# Altium footprint library WE-IBTI.PcbLib: 39 footprints (part 1 of 3)
Each footprint in its own frame and in the unit in brackets; x right, y up, seen from the top. Pads: shape width x height; smd on the part's side, far side on the other; paste and mask are expansions set on the pad; w line width, h text height; cw(c..) or ccw(c..) is an arc to the next point about the centre after c.
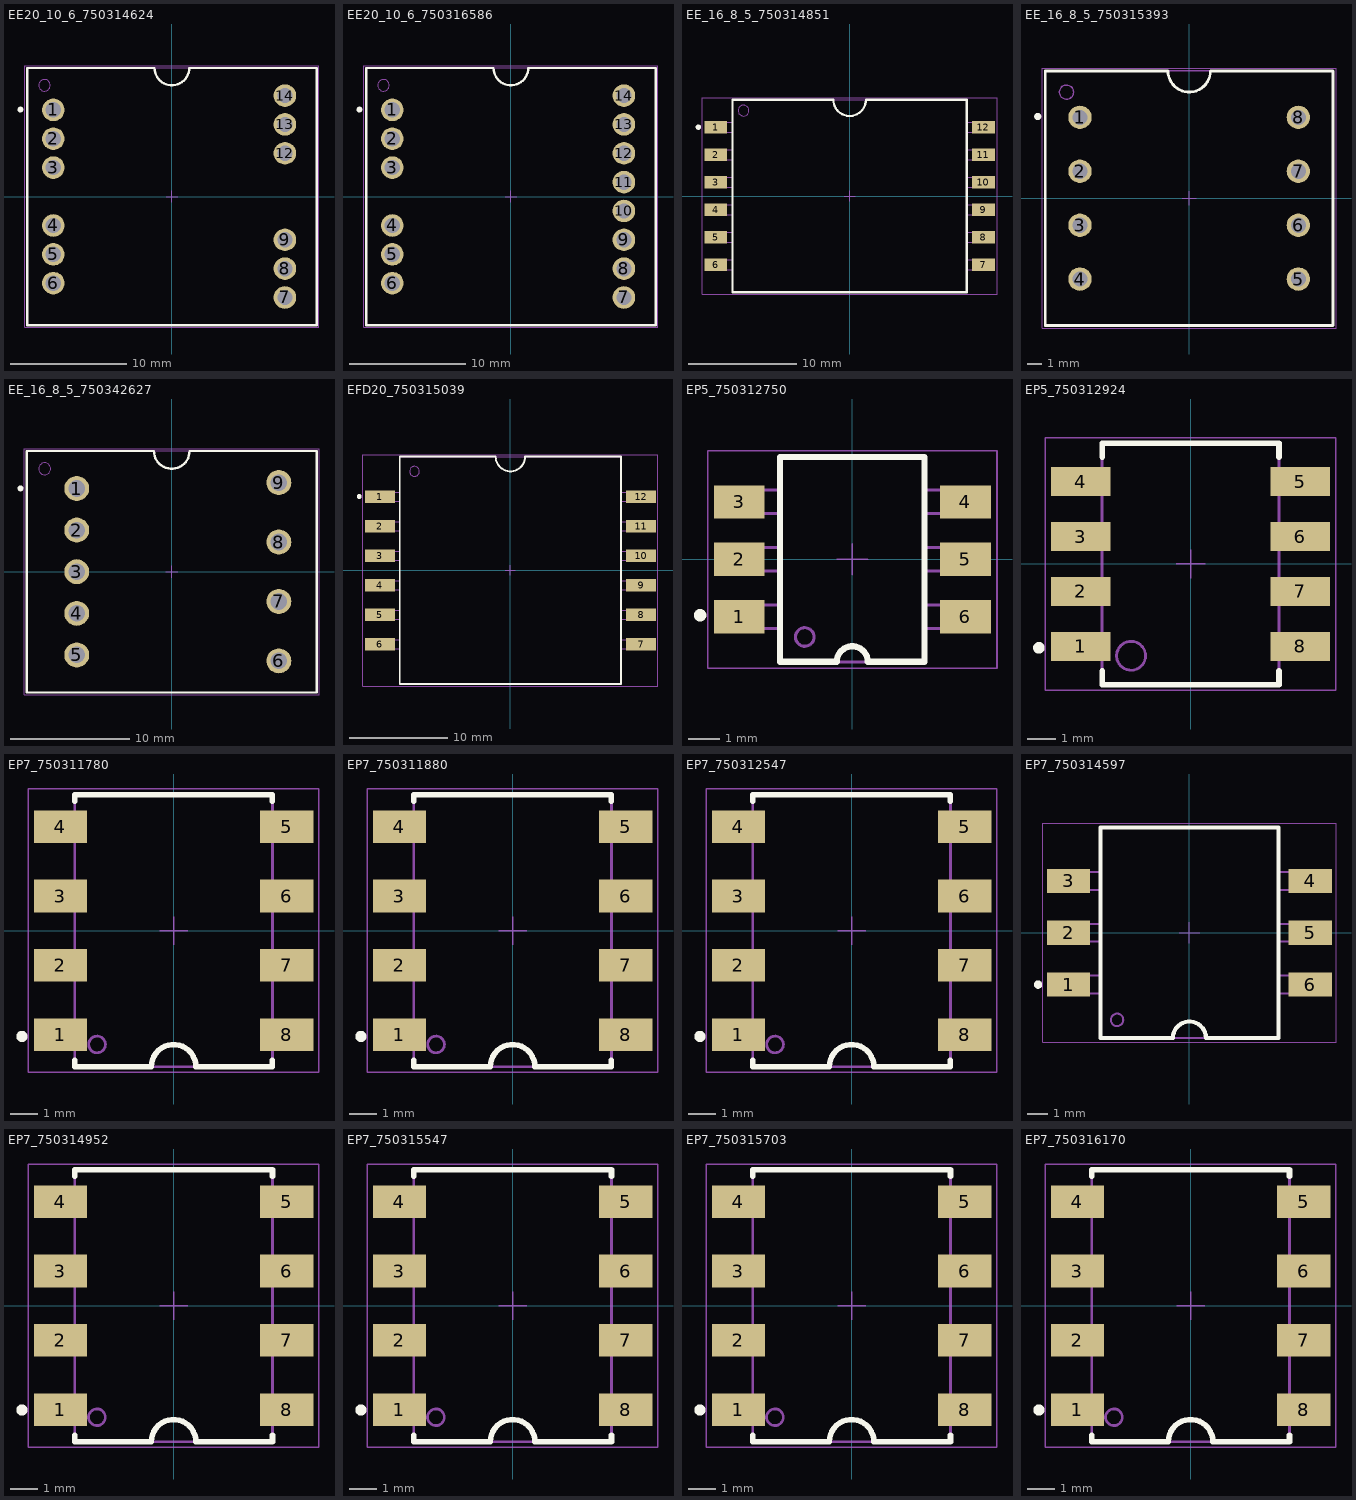
[diagram p0: the footprints below, top view; thin cyan lines are the x and y axes]

## EE20_10_6_750314624 [mm] "Isolated Buck Transformer, EE20/10/6, THT"
height 16
pads (12):
  round 1.95 hole 1.32: 1(-10.24,7.48) 2(-10.24,4.99) 3(-10.24,2.5) 4(-10.24,-2.5) 5(-10.24,-4.99) 6(-10.24,-7.48) 7(9.76,-8.715) 8(9.76,-6.225) 9(9.76,-3.735) 12(9.76,3.735) 13(9.76,6.225) 14(9.76,8.715)
Top Overlay:
  circle w0.25: c-13.075,7.51 r0.125
  lines w0.2: -12.5,-11.1 12.5,-11.1 12.5,11.1 1.5,11.1 cw(c0,11.1) -1.5,11.1 -12.5,11.1 -12.5,-11.1
Top Component Outline:
  circle w0.1: c-11,9.6 r0.5
  lines w0.1: -12.5,-11.1 -12.5,11.1 12.5,11.1 12.5,-11.1 -12.5,-11.1
Top Courtyard:
  lines w0.05: -12.7,-11.3 -12.7,11.3 12.7,11.3 12.7,-11.3 -12.7,-11.3
Top Component Center:
  lines w0.05: -0.5,0 0.5,0 ; 0,-0.5 0,0.5
Top Designator:
  text ".Designator" at -7.498,-0.5 h1.5
3D body "Download_STP_070-5643_MP10-11 (rev1) (1).STEP": height 15.6, standoff -3.31, extent -12.45,-10.56 12.45,10.56

## EE20_10_6_750316586 [mm] "Isolated Buck Transformer, EE20/10/6, THT"
height 16
pads (14):
  round 1.95 hole 1.32: 1(-10.24,7.48) 2(-10.24,4.99) 3(-10.24,2.5) 4(-10.24,-2.5) 5(-10.24,-4.99) 6(-10.24,-7.48) 7(9.76,-8.715) 8(9.76,-6.225) 9(9.76,-3.735) 10(9.76,-1.245) 11(9.76,1.245) 12(9.76,3.735) 13(9.76,6.225) 14(9.76,8.715)
Top Overlay:
  circle w0.25: c-13.075,7.51 r0.125
  lines w0.2: -12.5,-11.1 -12.5,11.1 -1.5,11.1 ccw(c0,11.1) 1.5,11.1 12.5,11.1 12.5,-11.1 -12.5,-11.1
Top Component Outline:
  circle w0.1: c-11,9.6 r0.5
  lines w0.1: -12.5,-11.1 12.5,-11.1 12.5,11.1 -12.5,11.1 -12.5,-11.1
Top Courtyard:
  lines w0.05: -12.7,-11.3 12.7,-11.3 12.7,11.3 -12.7,11.3 -12.7,-11.3
Top Component Center:
  lines w0.05: -0.5,0 0.5,0 ; 0,-0.5 0,0.5
Top Designator:
  text ".Designator" at -7.498,-0.5 h1.5
3D body "070-5643 (rev1).STEP": height 15.42, standoff -3.49, extent -12.45,-10.56 12.45,10.56

## EE_16_8_5_750314851 [mm] "Isolated Buck Transformer, EE16/8/5, SMT"
height 13.8
pads (12):
  rect 2.1x1.17 smd: 1(-12.36,6.35) 2(-12.36,3.81) 3(-12.36,1.27) 4(-12.36,-1.27) 5(-12.36,-3.81) 6(-12.36,-6.35) 7(12.36,-6.35) 8(12.36,-3.81) 9(12.36,-1.27) 10(12.36,1.27) 11(12.36,3.81) 12(12.36,6.35)
Top Overlay:
  circle w0.25: c-13.975,6.36 r0.125
  lines w0.2: -10.81,-8.89 10.81,-8.89 10.81,8.89 1.5,8.89 cw(c0,8.89) -1.5,8.89 -10.81,8.89 -10.81,-8.89
Top Component Outline:
  circle w0.1: c-9.81,7.89 r0.5
  lines w0.1: -10.81,-6.82 -13.05,-6.82 -13.05,-5.88 -10.81,-5.88 ; -10.81,-4.28 -13.05,-4.28 -13.05,-3.34 -10.81,-3.34 ; -10.81,-1.74 -13.05,-1.74 -13.05,-0.8 -10.81,-0.8 ; -10.81,0.8 -13.05,0.8 -13.05,1.74 -10.81,1.74 ; -10.81,3.34 -13.05,3.34 -13.05,4.28 -10.81,4.28 ; -10.81,5.88 -13.05,5.88 -13.05,6.82 -10.81,6.82 ; 10.81,-6.82 13.05,-6.82 13.05,-5.88 10.81,-5.88 ; 10.81,-4.28 13.05,-4.28 13.05,-3.34 10.81,-3.34 ; 10.81,-1.74 13.05,-1.74 13.05,-0.8 10.81,-0.8 ; 10.81,0.8 13.05,0.8 13.05,1.74 10.81,1.74 ; 10.81,3.34 13.05,3.34 13.05,4.28 10.81,4.28 ; 10.81,5.88 13.05,5.88 13.05,6.82 10.81,6.82 ; -10.81,-8.89 -10.81,8.89 10.81,8.89 10.81,-8.89 -10.81,-8.89
Top Courtyard:
  lines w0.05: -13.61,-9.09 -13.61,9.09 13.61,9.09 13.61,-9.09 -13.61,-9.09
Top Component Center:
  lines w0.05: -0.5,0 0.5,0 ; 0,-0.5 0,0.5
Top Designator:
  text ".Designator" at -7.498,-0.5 h1.5
3D body "070-5642 (rev1).STEP": height 13.51, standoff 0.02, extent -12.88,-8.515 12.88,8.515

## EE_16_8_5_750315393 [mm] "Isolated Buck Transformer, EE16/8/5, THT"
height 14.3
pads (8):
  round 1.65 hole 1.07: 1(-7.7,5.7) 2(-7.7,1.9) 3(-7.7,-1.9) 4(-7.7,-5.7) 5(7.7,-5.7) 6(7.7,-1.9) 7(7.7,1.9) 8(7.7,5.7)
Top Overlay:
  circle w0.25: c-10.675,5.76 r0.125
  lines w0.2: -10.15,-8.98 10.15,-8.98 10.15,8.98 1.5,8.98 cw(c0,8.98) -1.5,8.98 -10.15,8.98 -10.15,-8.98
Top Component Outline:
  circle w0.1: c-8.65,7.48 r0.5
  lines w0.1: -10.15,-8.98 10.15,-8.98 10.15,8.98 -10.15,8.98 -10.15,-8.98
Top Courtyard:
  lines w0.05: -10.35,-9.18 10.35,-9.18 10.35,9.18 -10.35,9.18 -10.35,-9.18
Top Component Center:
  lines w0.05: -0.5,0 0.5,0 ; 0,-0.5 0,0.5
Top Designator:
  text ".Designator" at -7.498,-0.5 h1.5
3D body "070-5420 (rev1).STEP": height 13.79, standoff -3.31, extent -9.4,-8.85 9.4,8.85

## EE_16_8_5_750342627 [mm] "Isolated Buck Transformer, EE16/8/5, THT"
height 16
pads (9):
  round 2.1 hole 1.4: 1(-7.99,7) 2(-7.99,3.5) 3(-7.99,0) 4(-7.99,-3.5) 5(-7.99,-7) 6(9.01,-7.5) 7(9.01,-2.5) 8(9.01,2.5) 9(9.01,7.5)
Top Overlay:
  circle w0.25: c-12.725,7.01 r0.125
  lines w0.2: -12.19,-10.16 -12.19,10.16 -1.5,10.16 ccw(c0,10.16) 1.5,10.16 12.19,10.16 12.19,-10.16 -12.19,-10.16
Top Component Outline:
  circle w0.1: c-10.69,8.66 r0.5
  lines w0.1: -12.19,-10.16 12.19,-10.16 12.19,10.16 -12.19,10.16 -12.19,-10.16
Top Courtyard:
  lines w0.05: -12.39,-10.36 -12.39,10.36 12.39,10.36 12.39,-10.36 -12.39,-10.36
Top Component Center:
  lines w0.05: -0.5,0 0.5,0 ; 0,-0.5 0,0.5
Top Designator:
  text ".Designator" at -7.498,-0.5 h1.5
3D body "070-5280 (rev1).STEP": height 14.9, standoff -3.5, extent -11.905,-9.9 11.905,9.9

## EFD20_750315039 [mm] "Isolated Buck Transformer, EFD20, SMT"
height 11.43
pads (12):
  rect 3.05x1.27 smd: 1(-13.26,7.5) 2(-13.26,4.5) 3(-13.26,1.5) 4(-13.26,-1.5) 5(-13.26,-4.5) 6(-13.26,-7.5) 7(13.26,-7.5) 8(13.26,-4.5) 9(13.26,-1.5) 10(13.26,1.5) 11(13.26,4.5) 12(13.26,7.5)
Top Overlay:
  circle w0.25: c-15.35,7.5 r0.125
  lines w0.2: -11.235,-11.555 -11.235,11.555 -1.5,11.555 ccw(c0,11.555) 1.5,11.555 11.235,11.555 11.235,-11.555 -11.235,-11.555
Top Component Outline:
  circle w0.1: c-9.735,10.055 r0.5
  lines w0.1: -11.235,-7.955 -14.54,-7.955 -14.54,-7.045 -11.235,-7.045 ; -11.235,-4.955 -14.54,-4.955 -14.54,-4.045 -11.235,-4.045 ; -11.235,-1.955 -14.54,-1.955 -14.54,-1.045 -11.235,-1.045 ; -11.235,1.045 -14.54,1.045 -14.54,1.955 -11.235,1.955 ; -11.235,4.045 -14.54,4.045 -14.54,4.955 -11.235,4.955 ; -11.235,7.045 -14.54,7.045 -14.54,7.955 -11.235,7.955 ; 11.235,-7.955 14.54,-7.955 14.54,-7.045 11.235,-7.045 ; 11.235,-4.955 14.54,-4.955 14.54,-4.045 11.235,-4.045 ; 11.235,-1.955 14.54,-1.955 14.54,-1.045 11.235,-1.045 ; 11.235,1.045 14.54,1.045 14.54,1.955 11.235,1.955 ; 11.235,4.045 14.54,4.045 14.54,4.955 11.235,4.955 ; 11.235,7.045 14.54,7.045 14.54,7.955 11.235,7.955 ; -11.235,-11.555 11.235,-11.555 11.235,11.555 -11.235,11.555 -11.235,-11.555
Top Courtyard:
  lines w0.05: -14.985,-11.755 -14.985,11.755 14.985,11.755 14.985,-11.755 -14.985,-11.755
Top Component Center:
  lines w0.05: -0.5,0 0.5,0 ; 0,-0.5 0,0.5
Top Designator:
  text ".Designator" at -7.498,-0.5 h1.5
3D body "Download_STP_070-5899 (rev1) (2).STEP": height 10.67, standoff 0, extent -14.325,-10 14.325,10

## EP5_750312750 [mm] "Isolated Buck Transformer, EP5, SMT"
height 5.59
pads (6):
  rect 1.63x1.07 smd: 1(-3.645,-1.85) 2(-3.645,0) 3(-3.645,1.85) 4(3.645,1.85) 5(3.645,0) 6(3.645,-1.85)
Top Overlay:
  circle w0.2: c-4.9,-1.8 r0.1
  lines w0.2: -2.33,-3.3 -2.33,3.3 2.33,3.3 2.33,-3.3 0.5,-3.3 ccw(c0,-3.3) -0.5,-3.3 -2.33,-3.3
Top Component Outline:
  circle w0.1: c-1.53,-2.5 r0.3
  lines w0.1: -2.33,-2.23 -4.13,-2.23 -4.13,-1.47 -2.33,-1.47 ; -2.33,-0.38 -4.13,-0.38 -4.13,0.38 -2.33,0.38 ; -2.33,1.47 -4.13,1.47 -4.13,2.23 -2.33,2.23 ; 2.33,-2.23 4.13,-2.23 4.13,-1.47 2.33,-1.47 ; 2.33,-0.38 4.13,-0.38 4.13,0.38 2.33,0.38 ; 2.33,1.47 4.13,1.47 4.13,2.23 2.33,2.23 ; -2.33,-3.3 2.33,-3.3 2.33,3.3 -2.33,3.3 -2.33,-3.3
Top Courtyard:
  lines w0.05: -4.66,-3.5 4.66,-3.5 4.66,3.5 -4.66,3.5 -4.66,-3.5
Top Component Center:
  lines w0.05: -0.5,0 0.5,0 ; 0,-0.5 0,0.5
Top Designator:
  text ".Designator" at -7.498,-0.5 h1.5
3D body "070-4426 (rev1).STEP": height 5.17, standoff 0.02, extent -3.85,-3.235 3.85,3.235

## EP5_750312924 [mm] "Isolated Buck Transformer, EP5, SMT"
height 6.35
pads (8):
  rect 2.06x1 smd: 1(-3.8,-2.85) 2(-3.8,-0.95) 3(-3.8,0.95) 4(-3.8,2.85) 5(3.8,2.85) 6(3.8,0.95) 7(3.8,-0.95) 8(3.8,-2.85)
Top Overlay:
  circle w0.2: c-5.25,-2.9 r0.1
  lines w0.2: -3.06,-3.7 -3.06,-4.175 3.06,-4.175 3.06,-3.7 ; -3.06,3.7 -3.06,4.175 3.06,4.175 3.06,3.7
Top Component Outline:
  circle w0.1: c-2.06,-3.175 r0.5
  lines w0.1: -3.06,-3.15 -4.3,-3.15 -4.3,-2.55 -3.06,-2.55 ; -3.06,-1.25 -4.3,-1.25 -4.3,-0.65 -3.06,-0.65 ; -3.06,0.65 -4.3,0.65 -4.3,1.25 -3.06,1.25 ; -3.06,2.55 -4.3,2.55 -4.3,3.15 -3.06,3.15 ; 3.06,-3.15 4.3,-3.15 4.3,-2.55 3.06,-2.55 ; 3.06,-1.25 4.3,-1.25 4.3,-0.65 3.06,-0.65 ; 3.06,0.65 4.3,0.65 4.3,1.25 3.06,1.25 ; 3.06,2.55 4.3,2.55 4.3,3.15 3.06,3.15 ; -3.06,-4.175 -3.06,4.175 3.06,4.175 3.06,-4.175 -3.06,-4.175
Top Courtyard:
  lines w0.05: -5.03,-4.375 5.03,-4.375 5.03,4.375 -5.03,4.375 -5.03,-4.375
Top Component Center:
  lines w0.05: -0.5,0 0.5,0 ; 0,-0.5 0,0.5
Top Designator:
  text ".Designator" at -7.498,-0.5 h1.5
3D body "Download_STP_070-6136 (rev1).STEP": height 5.18, standoff 0.02, extent -4.3,-3.75 4.3,3.75

## EP7_750311780 [mm] "Isolated Buck Transformer, EP7, SMT"
height 10.54
pads (8):
  rect 1.91x1.17 smd: 1(-4.065,-3.735) 2(-4.065,-1.245) 3(-4.065,1.245) 4(-4.065,3.735) 5(4.065,3.735) 6(4.065,1.245) 7(4.065,-1.245) 8(4.065,-3.735)
Top Overlay:
  circle w0.2: c-5.45,-3.8 r0.1
  lines w0.2: -3.55,-4.65 -3.55,-4.89 -0.8,-4.89 cw(c0,-4.89) 0.8,-4.89 3.55,-4.89 3.55,-4.65 ; -3.55,4.65 -3.55,4.89 3.55,4.89 3.55,4.65
Top Component Outline:
  circle w0.1: c-2.75,-4.09 r0.3
  lines w0.1: -3.55,-4.115 -4.57,-4.115 -4.57,-3.355 -3.55,-3.355 ; -3.55,-1.625 -4.57,-1.625 -4.57,-0.865 -3.55,-0.865 ; -3.55,0.865 -4.57,0.865 -4.57,1.625 -3.55,1.625 ; -3.55,3.355 -4.57,3.355 -4.57,4.115 -3.55,4.115 ; 3.55,-4.115 4.57,-4.115 4.57,-3.355 3.55,-3.355 ; 3.55,-1.625 4.57,-1.625 4.57,-0.865 3.55,-0.865 ; 3.55,0.865 4.57,0.865 4.57,1.625 3.55,1.625 ; 3.55,3.355 4.57,3.355 4.57,4.115 3.55,4.115 ; -3.55,-4.89 -3.55,4.89 3.55,4.89 3.55,-4.89 -3.55,-4.89
Top Courtyard:
  lines w0.05: -5.22,-5.09 -5.22,5.09 5.22,5.09 5.22,-5.09 -5.22,-5.09
Top Component Center:
  lines w0.05: -0.5,0 0.5,0 ; 0,-0.5 0,0.5
Top Designator:
  text ".Designator" at -7.498,-0.5 h1.5
3D body "070-4436 (rev1) (1).STEP": height 10.11, standoff 0.02, extent -4.4,-4.89 4.4,4.89

## EP7_750311880 [mm] "Isolated Buck Transformer, EP7, SMT"
height 10.54
pads (8):
  rect 1.91x1.17 smd: 1(-4.065,-3.735) 2(-4.065,-1.245) 3(-4.065,1.245) 4(-4.065,3.735) 5(4.065,3.735) 6(4.065,1.245) 7(4.065,-1.245) 8(4.065,-3.735)
Top Overlay:
  circle w0.2: c-5.45,-3.8 r0.1
  lines w0.2: -3.55,-4.65 -3.55,-4.89 -0.8,-4.89 cw(c0,-4.89) 0.8,-4.89 3.55,-4.89 3.55,-4.65 ; -3.55,4.65 -3.55,4.89 3.55,4.89 3.55,4.65
Top Component Outline:
  circle w0.1: c-2.75,-4.09 r0.3
  lines w0.1: -3.55,-4.115 -4.57,-4.115 -4.57,-3.355 -3.55,-3.355 ; -3.55,-1.625 -4.57,-1.625 -4.57,-0.865 -3.55,-0.865 ; -3.55,0.865 -4.57,0.865 -4.57,1.625 -3.55,1.625 ; -3.55,3.355 -4.57,3.355 -4.57,4.115 -3.55,4.115 ; 3.55,-4.115 4.57,-4.115 4.57,-3.355 3.55,-3.355 ; 3.55,-1.625 4.57,-1.625 4.57,-0.865 3.55,-0.865 ; 3.55,0.865 4.57,0.865 4.57,1.625 3.55,1.625 ; 3.55,3.355 4.57,3.355 4.57,4.115 3.55,4.115 ; -3.55,-4.89 3.55,-4.89 3.55,4.89 -3.55,4.89 -3.55,-4.89
Top Courtyard:
  lines w0.05: -5.22,-5.09 5.22,-5.09 5.22,5.09 -5.22,5.09 -5.22,-5.09
Top Component Center:
  lines w0.05: -0.5,0 0.5,0 ; 0,-0.5 0,0.5
Top Designator:
  text ".Designator" at -7.498,-0.5 h1.5
3D body "070-4436 (rev1) (2).STEP": height 10.11, standoff 0.02, extent -4.4,-4.89 4.4,4.89

## EP7_750312547 [mm] "Isolated Buck Transformer, EP7, SMT"
height 10.54
pads (8):
  rect 1.91x1.17 smd: 1(-4.065,-3.735) 2(-4.065,-1.245) 3(-4.065,1.245) 4(-4.065,3.735) 5(4.065,3.735) 6(4.065,1.245) 7(4.065,-1.245) 8(4.065,-3.735)
Top Overlay:
  circle w0.2: c-5.45,-3.8 r0.1
  lines w0.2: -3.55,-4.65 -3.55,-4.89 -0.8,-4.89 cw(c0,-4.89) 0.8,-4.89 3.55,-4.89 3.55,-4.65 ; -3.55,4.65 -3.55,4.89 3.55,4.89 3.55,4.65
Top Component Outline:
  circle w0.1: c-2.75,-4.09 r0.3
  lines w0.1: -3.55,-4.115 -4.57,-4.115 -4.57,-3.355 -3.55,-3.355 ; -3.55,-1.625 -4.57,-1.625 -4.57,-0.865 -3.55,-0.865 ; -3.55,0.865 -4.57,0.865 -4.57,1.625 -3.55,1.625 ; -3.55,3.355 -4.57,3.355 -4.57,4.115 -3.55,4.115 ; 3.55,-4.115 4.57,-4.115 4.57,-3.355 3.55,-3.355 ; 3.55,-1.625 4.57,-1.625 4.57,-0.865 3.55,-0.865 ; 3.55,0.865 4.57,0.865 4.57,1.625 3.55,1.625 ; 3.55,3.355 4.57,3.355 4.57,4.115 3.55,4.115 ; -3.55,-4.89 3.55,-4.89 3.55,4.89 -3.55,4.89 -3.55,-4.89
Top Courtyard:
  lines w0.05: -5.22,-5.09 5.22,-5.09 5.22,5.09 -5.22,5.09 -5.22,-5.09
Top Component Center:
  lines w0.05: -0.5,0 0.5,0 ; 0,-0.5 0,0.5
Top Designator:
  text ".Designator" at -7.498,-0.5 h1.5
3D body "070-4436 (rev1) (3).STEP": height 10.11, standoff 0.02, extent -4.4,-4.89 4.4,4.89

## EP7_750314597 [mm] "Isolated Buck Transformer, EP7, SMT"
height 8.64
pads (6):
  rect 2.08x1.17 smd: 1(-5.83,-2.5) 2(-5.83,0) 3(-5.83,2.5) 4(5.83,2.5) 5(5.83,0) 6(5.83,-2.5)
Top Overlay:
  circle w0.2: c-7.3,-2.5 r0.1
  lines w0.2: -4.29,-5.08 -4.29,5.08 4.29,5.08 4.29,-5.08 0.8,-5.08 ccw(c0,-5.08) -0.8,-5.08 -4.29,-5.08
Top Component Outline:
  circle w0.1: c-3.49,-4.2 r0.3
  lines w0.1: -4.29,-2.93 -6.68,-2.93 -6.68,-2.07 -4.29,-2.07 ; -4.29,-0.43 -6.68,-0.43 -6.68,0.43 -4.29,0.43 ; -4.29,2.07 -6.68,2.07 -6.68,2.93 -4.29,2.93 ; 4.29,-2.93 6.68,-2.93 6.68,-2.07 4.29,-2.07 ; 4.29,-0.43 6.68,-0.43 6.68,0.43 4.29,0.43 ; 4.29,2.07 6.68,2.07 6.68,2.93 4.29,2.93 ; -4.29,-5.08 4.29,-5.08 4.29,5.08 -4.29,5.08 -4.29,-5.08
Top Courtyard:
  lines w0.05: -7.07,-5.28 7.07,-5.28 7.07,5.28 -7.07,5.28 -7.07,-5.28
Top Component Center:
  lines w0.05: -0.5,0 0.5,0 ; 0,-0.5 0,0.5
Top Designator:
  text ".Designator" at -7.498,-0.5 h1.5
3D body "070-5801 (rev1).STEP": height 8.61, standoff 0.02, extent -6.35,-4.89 6.35,4.89

## EP7_750314952 [mm] "Isolated Buck Transformer, EP7, SMT"
height 10.54
pads (8):
  rect 1.91x1.17 smd: 1(-4.065,-3.735) 2(-4.065,-1.245) 3(-4.065,1.245) 4(-4.065,3.735) 5(4.065,3.735) 6(4.065,1.245) 7(4.065,-1.245) 8(4.065,-3.735)
Top Overlay:
  circle w0.2: c-5.45,-3.75 r0.1
  lines w0.2: -3.555,-4.65 -3.555,-4.89 -0.8,-4.89 cw(c0,-4.89) 0.8,-4.89 3.555,-4.89 3.555,-4.65 ; -3.555,4.65 -3.555,4.89 3.555,4.89 3.555,4.65
Top Component Outline:
  circle w0.1: c-2.755,-4.01 r0.3
  lines w0.1: -3.555,-4.115 -4.575,-4.115 -4.575,-3.355 -3.555,-3.355 ; -3.555,-1.625 -4.575,-1.625 -4.575,-0.865 -3.555,-0.865 ; -3.555,0.865 -4.575,0.865 -4.575,1.625 -3.555,1.625 ; -3.555,3.355 -4.575,3.355 -4.575,4.115 -3.555,4.115 ; 3.555,-4.115 4.575,-4.115 4.575,-3.355 3.555,-3.355 ; 3.555,-1.625 4.575,-1.625 4.575,-0.865 3.555,-0.865 ; 3.555,0.865 4.575,0.865 4.575,1.625 3.555,1.625 ; 3.555,3.355 4.575,3.355 4.575,4.115 3.555,4.115 ; -3.555,-4.89 3.555,-4.89 3.555,4.89 -3.555,4.89 -3.555,-4.89
Top Courtyard:
  lines w0.05: -5.22,-5.09 5.22,-5.09 5.22,5.09 -5.22,5.09 -5.22,-5.09
Top Component Center:
  lines w0.05: -0.5,0 0.5,0 ; 0,-0.5 0,0.5
Top Designator:
  text ".Designator" at -7.498,-0.5 h1.5
3D body "070-4436 (rev1) (4).STEP": height 10.11, standoff 0.02, extent -4.4,-4.89 4.4,4.89

## EP7_750315547 [mm] "Isolated Buck Transformer, EP7, SMT"
height 10.54
pads (8):
  rect 1.91x1.17 smd: 1(-4.065,-3.735) 2(-4.065,-1.245) 3(-4.065,1.245) 4(-4.065,3.735) 5(4.065,3.735) 6(4.065,1.245) 7(4.065,-1.245) 8(4.065,-3.735)
Top Overlay:
  circle w0.2: c-5.45,-3.75 r0.1
  lines w0.2: -3.555,-4.65 -3.555,-4.89 -0.8,-4.89 cw(c0,-4.89) 0.8,-4.89 3.555,-4.89 3.555,-4.65 ; -3.555,4.65 -3.555,4.89 3.555,4.89 3.555,4.65
Top Component Outline:
  circle w0.1: c-2.755,-4.01 r0.3
  lines w0.1: -3.555,-4.115 -4.575,-4.115 -4.575,-3.355 -3.555,-3.355 ; -3.555,-1.625 -4.575,-1.625 -4.575,-0.865 -3.555,-0.865 ; -3.555,0.865 -4.575,0.865 -4.575,1.625 -3.555,1.625 ; -3.555,3.355 -4.575,3.355 -4.575,4.115 -3.555,4.115 ; 3.555,-4.115 4.575,-4.115 4.575,-3.355 3.555,-3.355 ; 3.555,-1.625 4.575,-1.625 4.575,-0.865 3.555,-0.865 ; 3.555,0.865 4.575,0.865 4.575,1.625 3.555,1.625 ; 3.555,3.355 4.575,3.355 4.575,4.115 3.555,4.115 ; -3.555,-4.89 3.555,-4.89 3.555,4.89 -3.555,4.89 -3.555,-4.89
Top Courtyard:
  lines w0.05: -5.22,-5.09 5.22,-5.09 5.22,5.09 -5.22,5.09 -5.22,-5.09
Top Component Center:
  lines w0.05: -0.5,0 0.5,0 ; 0,-0.5 0,0.5
Top Designator:
  text ".Designator" at -7.498,-0.5 h1.5
3D body "070-4436 (rev1) (5).STEP": height 10.11, standoff 0.02, extent -4.4,-4.89 4.4,4.89

## EP7_750315703 [mm] "Isolated Buck Transformer, EP7, SMT"
height 10.54
pads (8):
  rect 1.91x1.17 smd: 1(-4.065,-3.735) 2(-4.065,-1.245) 3(-4.065,1.245) 4(-4.065,3.735) 5(4.065,3.735) 6(4.065,1.245) 7(4.065,-1.245) 8(4.065,-3.735)
Top Overlay:
  circle w0.2: c-5.45,-3.75 r0.1
  lines w0.2: -3.555,-4.65 -3.555,-4.89 -0.8,-4.89 cw(c0,-4.89) 0.8,-4.89 3.555,-4.89 3.555,-4.65 ; -3.555,4.65 -3.555,4.89 3.555,4.89 3.555,4.65
Top Component Outline:
  circle w0.1: c-2.755,-4.01 r0.3
  lines w0.1: -3.555,-4.115 -4.575,-4.115 -4.575,-3.355 -3.555,-3.355 ; -3.555,-1.625 -4.575,-1.625 -4.575,-0.865 -3.555,-0.865 ; -3.555,0.865 -4.575,0.865 -4.575,1.625 -3.555,1.625 ; -3.555,3.355 -4.575,3.355 -4.575,4.115 -3.555,4.115 ; 3.555,-4.115 4.575,-4.115 4.575,-3.355 3.555,-3.355 ; 3.555,-1.625 4.575,-1.625 4.575,-0.865 3.555,-0.865 ; 3.555,0.865 4.575,0.865 4.575,1.625 3.555,1.625 ; 3.555,3.355 4.575,3.355 4.575,4.115 3.555,4.115 ; -3.555,-4.89 3.555,-4.89 3.555,4.89 -3.555,4.89 -3.555,-4.89
Top Courtyard:
  lines w0.05: -5.22,-5.09 5.22,-5.09 5.22,5.09 -5.22,5.09 -5.22,-5.09
Top Component Center:
  lines w0.05: -0.5,0 0.5,0 ; 0,-0.5 0,0.5
Top Designator:
  text ".Designator" at -7.498,-0.5 h1.5
3D body "070-4436 (rev1) (6).STEP": height 10.11, standoff 0.02, extent -4.4,-4.89 4.4,4.89

## EP7_750316170 [mm] "Isolated Buck Transformer, EP7, SMT"
height 10.54
pads (8):
  rect 1.91x1.17 smd: 1(-4.065,-3.735) 2(-4.065,-1.245) 3(-4.065,1.245) 4(-4.065,3.735) 5(4.065,3.735) 6(4.065,1.245) 7(4.065,-1.245) 8(4.065,-3.735)
Top Overlay:
  circle w0.2: c-5.45,-3.75 r0.1
  lines w0.2: -3.555,-4.65 -3.555,-4.89 -0.8,-4.89 cw(c0,-4.89) 0.8,-4.89 3.555,-4.89 3.555,-4.65 ; -3.555,4.65 -3.555,4.89 3.555,4.89 3.555,4.65
Top Component Outline:
  circle w0.1: c-2.755,-4.01 r0.3
  lines w0.1: -3.555,-4.115 -4.575,-4.115 -4.575,-3.355 -3.555,-3.355 ; -3.555,-1.625 -4.575,-1.625 -4.575,-0.865 -3.555,-0.865 ; -3.555,0.865 -4.575,0.865 -4.575,1.625 -3.555,1.625 ; -3.555,3.355 -4.575,3.355 -4.575,4.115 -3.555,4.115 ; 3.555,-4.115 4.575,-4.115 4.575,-3.355 3.555,-3.355 ; 3.555,-1.625 4.575,-1.625 4.575,-0.865 3.555,-0.865 ; 3.555,0.865 4.575,0.865 4.575,1.625 3.555,1.625 ; 3.555,3.355 4.575,3.355 4.575,4.115 3.555,4.115 ; -3.555,-4.89 -3.555,4.89 3.555,4.89 3.555,-4.89 -3.555,-4.89
Top Courtyard:
  lines w0.05: -5.22,-5.09 -5.22,5.09 5.22,5.09 5.22,-5.09 -5.22,-5.09
Top Component Center:
  lines w0.05: -0.5,0 0.5,0 ; 0,-0.5 0,0.5
Top Designator:
  text ".Designator" at -7.498,-0.5 h1.5
3D body "070-4436 (rev1) (7).STEP": height 10.11, standoff 0.02, extent -4.4,-4.89 4.4,4.89